# Altium footprint library BNX02X-01_M.PcbLib: 1 footprints
Each footprint in its own frame and in the unit in brackets; x right, y up, seen from the top. Pads: shape width x height; smd on the part's side, far side on the other; paste and mask are expansions set on the pad; w line width, h text height; cw(c..) or ccw(c..) is an arc to the next point about the centre after c.
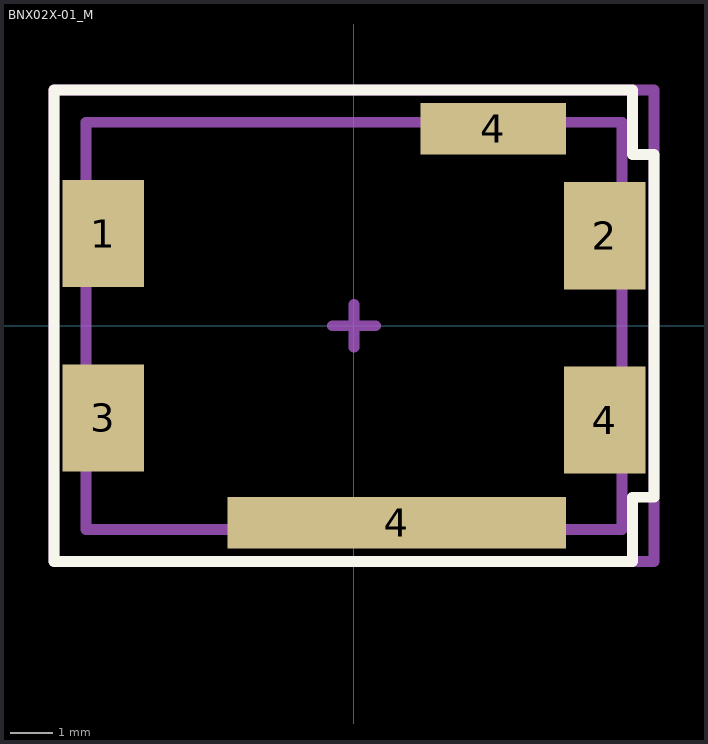
[diagram p0: the footprint, top view; thin cyan lines are the x and y axes]

## BNX02X-01_M [mm]
pads (6):
  rect 1.9x2.5 smd: 1(-5.85,2.15) 2(5.85,2.1) 3(-5.85,-2.15) 4(5.85,-2.2)
  rect 7.9x1.2 smd: 4(1,-4.6)
  rect 3.4x1.2 smd: 4(3.25,4.6)
Top Overlay:
  lines w0.254: -7,-5.5 -7,-4 -7,1 -7,4 -7,5.5 1,5.5 5.5,5.5 6.5,5.5 6.5,4 7,4 7,-4 6.5,-4 6.5,-5.5 -3.5,-5.5 -7,-5.5
Mechanical 13:
  lines w0.254: -6.25,-4.75 6.25,-4.75 6.25,4.75 -6.25,4.75 -6.25,-4.75
Mechanical 15:
  lines w0.254: -0.5,0 0.5,0 ; 0,-0.5 0,0.5 ; -7,-5.5 -7,-0.75 -7,0.75 -7,5.5 7,5.5 7,-5.5 -7,-5.5
Mechanical 17:
  text "'.Designator'" at -6.5,-1.25 h1.52
Mechanical 19:
  text "'.Comment'" at -6.5,-1.25 h1.52
3D body "User Library-BNX022.step": height 3.1, standoff 0, extent -6.05,-4.55 6.05,4.55